# EAGLE library part DRV2667 (library AKA_lib)
DRV2667
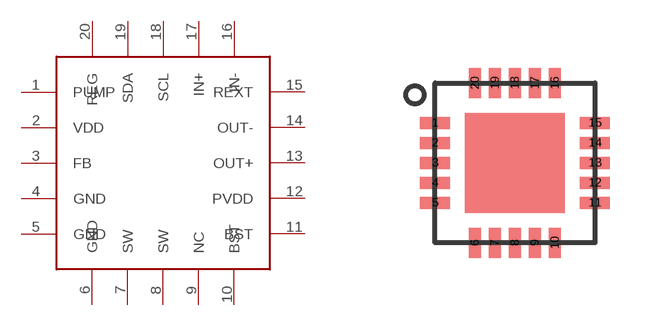
[diagram p19: symbol with the pads of QFN20; footprint QFN20]

Designator prefix -

## DRV2667  [QFN20]
1  PUMP
2  VDD  pwr
3  FB
4  GND  pwr
5  GND  pwr
6  GND
7  SW
8  SW
9  NC  nc
10  BST
11  BST
12  PVDD
13  OUT+  out
14  OUT-  out
15  REXT
16  IN-  in
17  IN+  in
18  SCL
19  SDA
20  REG

## Footprint QFN20 (pad centres in mm)
smd 0.75 x 0.3: 1 -2,1; 2 -2,0.5; 3 -2,0; 4 -2,-0.5; 5 -2,-1; 11 2,-1; 12 2,-0.5; 13 2,0; 14 2,0.5; 15 2,1
smd 0.3 x 0.75: 6 -1,-2; 7 -0.5,-2; 8 0,-2; 9 0.5,-2; 10 1,-2; 16 1,2; 17 0.5,2; 18 0,2; 19 -0.5,2; 20 -1,2